# EAGLE library part ADM4210 (library Qwiic_Iridium_9603N)
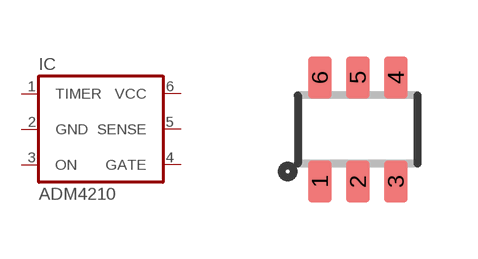
[diagram p0: symbol with the pads of TSOT6; footprint TSOT6]

Designator prefix IC

## ADM4210-1  [TSOT6]
1  TIMER  in
2  GND  pwr
3  ON  in
4  GATE  out
5  SENSE  in
6  VCC  pwr

## Footprint TSOT6 (pad centres in mm)
smd 0.6 x 1.05: 1 -0.95,-1.3; 2 0,-1.3; 3 0.95,-1.3; 4 0.95,1.3; 5 0,1.3; 6 -0.95,1.3